# Altium schematic symbol library schematiclibpre.SchLib: 4 symbols
Pins are listed as number, name and electrical type; pins without a type are passive.

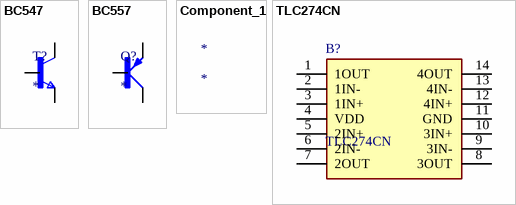
[diagram p0: symbols BC547 to TLC274CN]

## BC547
designator T?
Trans GP BJT NPN 45V 0.1A 500mW 3-Pin TO-92 T/R; MF: ON Semiconductor; MP: BC547; SnapEDA_Link: https://www.snapeda.com/parts/BC547/Onsemi/view-part/?ref=snap; Package: None; Value: *; Check_prices: https://www.snapeda.com/parts/BC547/Onsemi/view-part/?ref=eda
footprint TO92
pins: 1 C, 2 B, 3 E

## BC557
designator Q?
Bipolar (BJT) Transistor PNP 45 V 100 mA 320MHz 625 mW Through Hole TO-92 (TO-226); MP: BC557; MF: ON; Availability: In Stock; Package: E-PKG AXIAL-LEADED-2 ON Semiconductor; Value: *; Check_prices: https://www.snapeda.com/parts/BC557/Onsemi/view-part/?ref=eda; SnapEDA_Link: https://www.snapeda.com/parts/BC557/Onsemi/view-part/?ref=snap; Price: None
footprint SOT54A
pins: B, C, E

## Component_1
designator *

## TLC274CN
designator B?
Quad Single Supply Operational Amplifier; Manufacturer_Name: Texas Instruments; Geometry.Height: 5.08mm; Mouser Part Number: 595-TLC274CN; Mouser Price/Stock: https://www.mouser.co.uk/ProductDetail/Texas-Instruments/TLC274CN?qs=Zu35EjizYSRqAk%2FahP1cKg%3D%3D; Manufacturer_Part_Number: TLC274CN; Datasheet Link: http://www.ti.com/lit/gpn/tlc274
footprint DIP14
pins: 1 1OUT, 2 1IN-, 3 1IN+, 4 VDD, 5 2IN+, 6 2IN-, 7 2OUT, 8 3OUT, 9 3IN-, 10 3IN+, 11 GND, 12 4IN+, 13 4IN-, 14 4OUT